# Altium schematic symbol library 无刷驱动-STC-无感-Lite3S.SchLib: 23 symbols
Pins are listed as number, name and electrical type; pins without a type are passive.

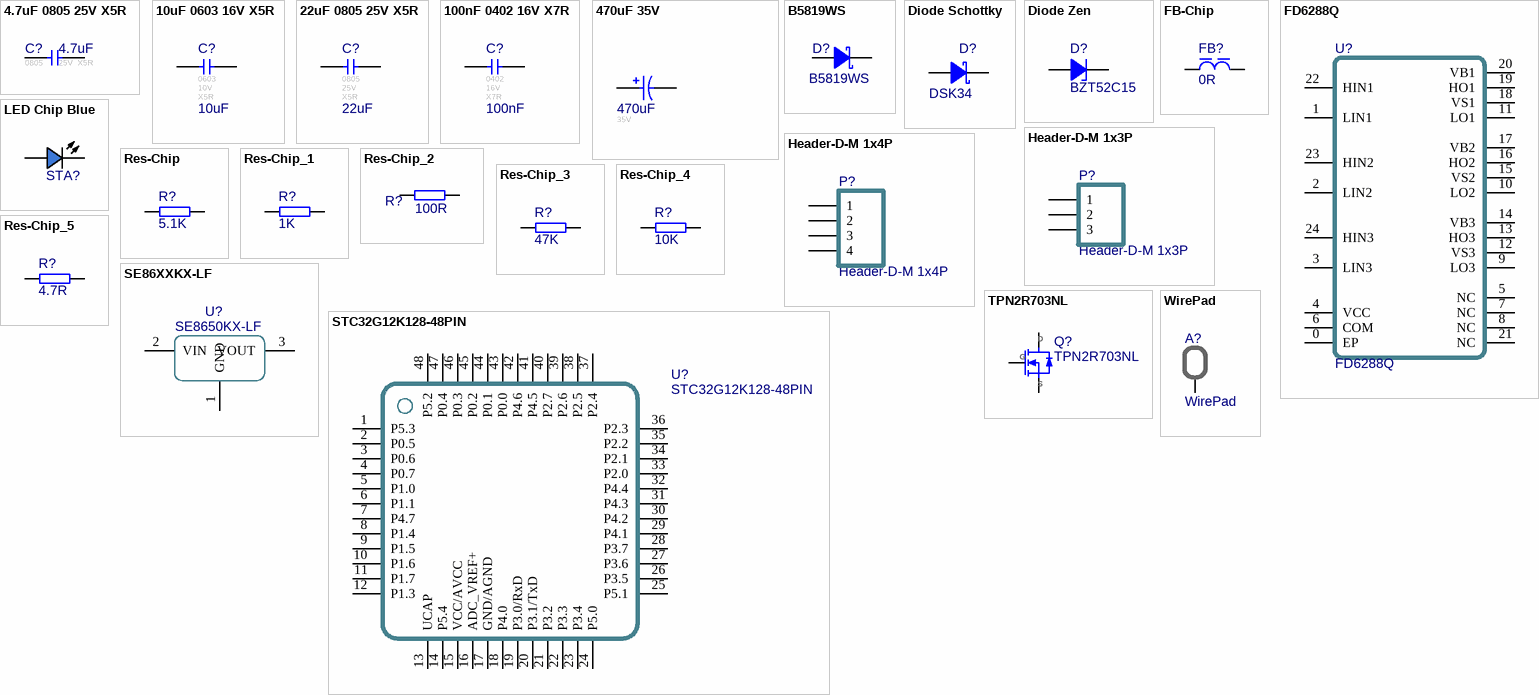
[diagram p0: symbols 4.7uF 0805 25V X5R to WirePad]

## 4.7uF 0805 25V X5R
designator C?, comment value 4.7uF  FootPrint: 0805  Voltage: 25V  Type: X5R  (hidden comment: 4.7uF 25V X5R)
贴片瓷片电容; MLCC; 0805(2012);; Revision: V1.0
footprint CAPC2012[0805] (0805贴片电容 无丝印 2脚 2.00x1.20mm IPC中密度)
footprint CAPC2012[0805]S-L (0805贴片电容 有丝印 2脚 2.00x1.20mm IPC高密度)
footprint CAPC2012[0805]S-M (0805贴片电容 有丝印 2脚 2.00x1.20mm IPC低密度)
footprint CAPC2012[0805]S-N (0805贴片电容 有丝印 2脚 2.00x1.20mm IPC中密度)
pins: 1, 2

## 10uF 0603 16V X5R
designator C?, comment value 10uF  FootPrint: 0603  Voltage: 10V  Type: X5R  (hidden comment: 10uF 10V X5R)
贴片瓷片电容; MLCC; 0603(1608);; Revision: V1.0
footprint CAPC1608[0603]-L (0603贴片电容 无丝印 2脚 1.60x0.80mm IPC高密度)
footprint CAPC1608[0603]-M (0603贴片电容 无丝印 2脚 1.60x0.80mm IPC低密度)
footprint CAPC1608[0603]-N (0603贴片电容 无丝印 2脚 1.60x0.80mm IPC中密度)
footprint CAPC1608[0603]S-L (0603贴片电容 有丝印 2脚 1.60x0.80mm IPC高密度)
footprint CAPC1608[0603]S-M (0603贴片电容 有丝印 2脚 1.60x0.80mm IPC低密度)
footprint CAPC1608[0603]S-N (0603贴片电容 有丝印 2脚 1.60x0.80mm IPC中密度)
pins: 1, 2

## 22uF 0805 25V X5R
designator C?, comment value 22uF  FootPrint: 0805  Voltage: 25V  Type: X5R  (hidden comment: 22uF 25V X5R)
贴片瓷片电容; MLCC; 0805(2012);; Revision: V1.0
footprint CAPC2012[0805] (0805贴片电容 无丝印 2脚 2.00x1.20mm IPC中密度)
footprint CAPC2012[0805]S-L (0805贴片电容 有丝印 2脚 2.00x1.20mm IPC高密度)
footprint CAPC2012[0805]S-M (0805贴片电容 有丝印 2脚 2.00x1.20mm IPC低密度)
footprint CAPC2012[0805]S-N (0805贴片电容 有丝印 2脚 2.00x1.20mm IPC中密度)
pins: 1, 2

## 100nF 0402 16V X7R
designator C?, comment value 100nF  FootPrint: 0402  Voltage: 16V  Type: X7R  (hidden comment: 100nF 16V X7R)
贴片瓷片电容; MLCC; 0402(1005);; Revision: V1.0
footprint CAPC1005[0402]-L (0402贴片电容 无丝印 2脚 1.00x0.50mm IPC高密度)
footprint CAPC1005[0402]-M (0402贴片电容 无丝印 2脚 1.00x0.50mm IPC低密度)
footprint CAPC1005[0402]-N (0402贴片电容 无丝印 2脚 1.00x0.50mm IPC中密度)
footprint CAPC1005[0402]S-L (0402贴片电容 有丝印 2脚 1.00x0.50mm IPC高密度)
footprint CAPC1005[0402]S-M (0402贴片电容 有丝印 2脚 1.00x0.50mm IPC低密度)
footprint CAPC1005[0402]S-N (0402贴片电容 有丝印 2脚 1.00x0.50mm IPC中密度)
pins: 1, 2

## 470uF 35V
designator C?, comment value 470uF  Voltage: 35V  (hidden comment: 470uF 35V 铝电解)
直插固态电容; Revision: V1.0; Type: 铝电解
footprint CAPPR5-8X12
footprint Cap-S-D 3.5-8x14-S (固态直插 3.5mm间距 8x14mm 侧着焊在板边)
pins: 1, 2

## B5819WS
designator D?
B5819WS 肖特基二极管; Revision: V1.0; Value: B5819WS
footprint SOD-323 (SOD Diode;1.65mm W X 1.24mm L X 1.16mm H body)
pins: A, K

## Diode Schottky
designator D?, comment DSK34
肖特基二极管 Diode; Imax: 500mA; Published: 8-Jun-2000; Revision: July-2002: Re-released for DXP Platform.; Publisher: Altium Limited; Price(RMB): 0.000
footprint SMB[DO-214AA] (Molded Diode, 2-Leads, Body 5.30x3.55mm, IPC Medium Density)
footprint SMC[DO-214AB] (Molded Diode, 2-Leads, Body 7.94x5.90mm, IPC Medium Density)
footprint SOD-123-FL (SOD Diode;2.70mm W X 1.60mm L X 1.35mm H body)
footprint SOD-323 (SOD Diode;1.65mm W X 1.24mm L X 1.16mm H body)
footprint SOD-523-M (SODFL Diode;1.20mm W X 0.80mm L X 0.70mm H body)
footprint SMA[DO-214AC] (Molded Diode, 2-Leads, Body 5.00x2.49mm, IPC Medium Density)
footprint SOD-123-L (SOD Diode;2.70mm W X 1.60mm L X 1.35mm H body)
footprint SOD-523-L (SODFL Diode;1.20mm W X 0.80mm L X 0.70mm H body)
footprint SOD-123-M (SOD Diode;2.70mm W X 1.60mm L X 1.35mm H body)
pins: A, K

## Diode Zen
designator D?, comment BZT52C15
稳压二极管 齐纳二极管  Zener Diode; Published: 8-Jun-2000; Revision: July-2002: Re-released for DXP Platform.; Publisher: Altium Limited; Price(RMB): 0.000
footprint DIODE-0.7 (Zener Diode; 2 Leads)
footprint DIODE-0.4
footprint SOD-87[LL-41] (MELF Diode, 2-Leads, Body 5.00x2.49mm, IPC Medium Density)
footprint CD4521-1808
footprint SOD-80[LL-34] (MELF Diode, 2-Leads, Body 3.55x1.65mm, IPC Medium Density)
footprint SOD-123-FL (SOD Diode;2.70mm W X 1.60mm L X 1.35mm H body)
footprint SOD-123-L (SOD Diode;2.70mm W X 1.60mm L X 1.35mm H body)
footprint SOD-123-M (SOD Diode;2.70mm W X 1.60mm L X 1.35mm H body)
footprint SOD-323 (SOD Diode;1.65mm W X 1.24mm L X 1.16mm H body)
footprint SOD-523-L (SODFL Diode;1.20mm W X 0.80mm L X 0.70mm H body)
footprint SOD-523-M (SODFL Diode;1.20mm W X 0.80mm L X 0.70mm H body)
pins: A, K

## FB-Chip
designator FB?, comment value 0R  (hidden comment: 0R @100MHz 500mA)
贴片磁珠; DCR: .1m; Published: 2020-12-18; Revision: V1.0; Frequency: @100MHz; Imax: 500mA
footprint INDC1608[0603]S (Not in IPC, Chip Inductor,Silkscreen Border, 2-Leads, Body 1.60x0.80mm, IPC Medium Density)
footprint INDC2012[0805]S (Chip Inductor,Silkscreen Border, 2-Leads, Body 2.00x0.90mm, IPC Medium Density)
footprint INDC3216[1206]S (Chip Inductor,Silkscreen Border, 2-Leads, Body 3.20x1.60mm, IPC Medium Density)
footprint INDC4509[1806]S (Chip Inductor,Silkscreen Border, 2-Leads, Body 4.50x0.90mm, IPC Medium Density)
footprint INDC1005[0402] (Chip Inductor, 2-Leads, Body 1.00x0.50mm, IPC Medium Density)
footprint INDC1608[0603] (Chip Inductor, 2-Leads, Body 1.60x0.80mm, IPC Medium Density)
footprint INDC2012[0805] (Chip Inductor, 2-Leads, Body 2.00x0.90mm, IPC Medium Density)
footprint INDC3216[1206] (Chip Inductor, 2-Leads, Body 3.20x1.60mm, IPC Medium Density)
footprint INDC3225[1210] (Capacitor,non-polarized,Chip;3.20mm L X 2.50mm W X 1.35mm H)
footprint INDC3216[1206] (Chip Inductor, 2-Leads, Body 3.20x1.60mm, IPC Medium Density)
footprint INDC1005[0402]S (Chip Inductor, 2-Leads, Body 1.00x0.50mm, IPC Medium Density)
pins: 1, 2

## FD6288Q
designator U?
FD6288Q 三相栅极驱动器
footprint QFN24-4x4
pins: 0 EP, 1 LIN1, 2 LIN2, 3 LIN3, 4 VCC, 5 NC, 6 COM, 7 NC, 8 NC, 9 LO3, 10 LO2, 11 LO1, 12 VS3, 13 HO3, 14 VB3, 15 VS2, 16 HO2, 17 VB2, 18 VS1, 19 HO1, 20 VB1, 21 NC, 22 HIN1, 23 HIN2, 24 HIN3

## Header-D-M 1x3P
designator P?
1x3pin; Revision: V1.0; Value: Header-D-M 1x3P
footprint HDR1X3-TP (Footprint not found)
pins: 1, 2, 3

## Header-D-M 1x4P
designator P?  (no BOM)
1x4pin; Revision: V1.0; Value: Header-D-M 1x4P
footprint HDR1X4-TP (2.54mm间距,表面焊盘)
pins: 1, 2, 3, 4

## LED Chip Blue
designator STA?, comment 蓝色贴片LED  (value not drawn)
Published: 8-Jun-2000; Revision: July-2002: Re-released for DXP Platform.; Publisher: Altium Limited; Price(RMB): 0.00; Color: Blue
footprint LEDC1608(0603) (LED,Chip;1.60mm L X 0.80mm W X 0.80mm H)
footprint LEDC2012(0805) (LED,Chip;2.00mm L X 1.25mm W X 1.20mm H)
footprint LEDC3216(1206) (LED,Chip;3.20mm L X 1.60mm W X 1.30mm H)
footprint LEDC1608(0603)-L (LED,Chip;1.60mm L X 0.80mm W X 0.80mm H)
footprint LEDC2012(0805)-L (LED,Chip;2.00mm L X 1.25mm W X 1.20mm H)
footprint LEDC3216(1204) (LED,Chip;3.20mm L X 1.60mm W X 1.30mm H)
footprint LEDC3528-2 (3528 2脚 贴片LED)
pins: A, C

## Res-Chip
designator R?, comment value 5.1K  (hidden comment: 5.1K ±1%)
贴片电阻; Power: 1/8W; Revision: V1.0; Tolerance: ±1%
footprint RESC0603[0201]-L (0201贴片电阻 无丝印 2脚 0.60x0.30mm IPC高密度)
footprint RESC0603[0201]-M (0201贴片电阻 无丝印 2脚 0.60x0.30mm IPC低密度)
footprint RESC0603[0201]-N (0201贴片电阻 无丝印 2脚 0.60x0.30mm IPC中密度)
footprint RESC0603[0201]S-L (0201贴片电阻 有丝印 2脚 0.60x0.30mm IPC高密度)
footprint RESC0603[0201]S-M (0201贴片电阻 有丝印 2脚 0.60x0.30mm IPC低密度)
footprint RESC0603[0201]S-N (0201贴片电阻 有丝印 2脚 0.60x0.30mm IPC中密度)
footprint RESC1005[0402]-L (0402贴片电阻 无丝印 2脚 1.00x0.50mm IPC高密度)
footprint RESC1005[0402]S-M (0402贴片电阻 有丝印 2脚 1.00x0.50mm IPC低密度)
footprint RESC1005[0402]-M (0402贴片电阻 无丝印 2脚 1.00x0.50mm IPC低密度)
footprint RESC1005[0402]-N (0402贴片电阻 无丝印 2脚 1.00x0.50mm IPC中密度)
footprint RESC1005[0402]S-L (0402贴片电阻 有丝印 2脚 1.00x0.50mm IPC高密度)
footprint RESC1005[0402]S-N (0402贴片电阻 有丝印 2脚 1.00x0.50mm IPC中密度)
footprint RESC1608[0603]-L (0603贴片电阻 无丝印 2脚 1.60x0.80mm IPC高密度)
footprint RESC1608[0603]-M (0603贴片电阻 无丝印 2脚 1.60x0.80mm IPC低密度)
footprint RESC1608[0603]-N (0603贴片电阻 无丝印 2脚 1.60x0.80mm IPC中密度)
footprint RESC1608[0603]S-L (0603贴片电阻 有丝印 2脚 1.60x0.80mm IPC高密度)
footprint RESC1608[0603]S-M (0603贴片电阻 有丝印 2脚 1.60x0.80mm IPC低密度)
footprint RESC1608[0603]S-N (0603贴片电阻 有丝印 2脚 1.60x0.80mm IPC中密度)
footprint RESC2012[0805] (0805贴片电阻 无丝印 2脚 2.00x1.20mm IPC高密度)
footprint RESC2012[0805]S-L (0805贴片电阻 有丝印 2脚 2.00x1.20mm IPC高密度)
footprint RESC2012[0805]S-M (0805贴片电阻 有丝印 2脚 2.00x1.20mm IPC低密度)
footprint RESC2012[0805]S-N (0805贴片电阻 有丝印 2脚 2.00x1.20mm IPC中密度)
footprint RESC3216[1206] (1206贴片电阻 无丝印 2脚 3.20x1.60mm IPC高密度)
footprint RESC3216[1206]S-L (1206贴片电阻 有丝印 2脚 3.20x1.60mm IPC高密度)
footprint RESC3216[1206]S-M (1206贴片电阻 有丝印 2脚 3.20x1.60mm IPC低密度)
footprint RESC3216[1206]S-N (1206贴片电阻 有丝印 2脚 3.20x1.60mm IPC中密度)
footprint RESC3225[1210] (Chip Resistor, 2-Leads, Body 3.20x2.49mm, IPC Medium Density)
footprint RESC3225[1210]S (Silkscreen Outside, Chip Resistor, 2-Leads, Body 3.20x2.49mm, IPC Medium Density)
footprint RESC5025[2010] (Chip Resistor, 2-Leads, Body 5.00x2.50mm, IPC Medium Density)
footprint RESC5025[2010]S (Silkscreen Outside, Chip Resistor, 2-Leads, Body 5.00x2.50mm, IPC Medium Density)
footprint RESC6332[2512] (2512贴片电阻 无丝印 2脚 6.30x3.20mm IPC中密度)
footprint RESC6332[2512]S (2512贴片电阻 有丝印 2脚 6.30x3.20mm IPC中密度)
pins: 1, 2

## Res-Chip_1
designator R?, comment value 1K  (hidden comment: 1K ±1%)
贴片电阻; Power: 1/8W; Revision: V1.0; Tolerance: ±1%
footprint RESC0603[0201]-L (0201贴片电阻 无丝印 2脚 0.60x0.30mm IPC高密度)
footprint RESC0603[0201]-M (0201贴片电阻 无丝印 2脚 0.60x0.30mm IPC低密度)
footprint RESC0603[0201]-N (0201贴片电阻 无丝印 2脚 0.60x0.30mm IPC中密度)
footprint RESC0603[0201]S-L (0201贴片电阻 有丝印 2脚 0.60x0.30mm IPC高密度)
footprint RESC0603[0201]S-M (0201贴片电阻 有丝印 2脚 0.60x0.30mm IPC低密度)
footprint RESC0603[0201]S-N (0201贴片电阻 有丝印 2脚 0.60x0.30mm IPC中密度)
footprint RESC1005[0402]-L (0402贴片电阻 无丝印 2脚 1.00x0.50mm IPC高密度)
footprint RESC1005[0402]S-M (0402贴片电阻 有丝印 2脚 1.00x0.50mm IPC低密度)
footprint RESC1005[0402]-M (0402贴片电阻 无丝印 2脚 1.00x0.50mm IPC低密度)
footprint RESC1005[0402]-N (0402贴片电阻 无丝印 2脚 1.00x0.50mm IPC中密度)
footprint RESC1005[0402]S-L (0402贴片电阻 有丝印 2脚 1.00x0.50mm IPC高密度)
footprint RESC1005[0402]S-N (0402贴片电阻 有丝印 2脚 1.00x0.50mm IPC中密度)
footprint RESC1608[0603]-L (0603贴片电阻 无丝印 2脚 1.60x0.80mm IPC高密度)
footprint RESC1608[0603]-M (0603贴片电阻 无丝印 2脚 1.60x0.80mm IPC低密度)
footprint RESC1608[0603]-N (0603贴片电阻 无丝印 2脚 1.60x0.80mm IPC中密度)
footprint RESC1608[0603]S-L (0603贴片电阻 有丝印 2脚 1.60x0.80mm IPC高密度)
footprint RESC1608[0603]S-M (0603贴片电阻 有丝印 2脚 1.60x0.80mm IPC低密度)
footprint RESC1608[0603]S-N (0603贴片电阻 有丝印 2脚 1.60x0.80mm IPC中密度)
footprint RESC2012[0805] (0805贴片电阻 无丝印 2脚 2.00x1.20mm IPC高密度)
footprint RESC2012[0805]S-L (0805贴片电阻 有丝印 2脚 2.00x1.20mm IPC高密度)
footprint RESC2012[0805]S-M (0805贴片电阻 有丝印 2脚 2.00x1.20mm IPC低密度)
footprint RESC2012[0805]S-N (0805贴片电阻 有丝印 2脚 2.00x1.20mm IPC中密度)
footprint RESC3216[1206] (1206贴片电阻 无丝印 2脚 3.20x1.60mm IPC高密度)
footprint RESC3216[1206]S-L (1206贴片电阻 有丝印 2脚 3.20x1.60mm IPC高密度)
footprint RESC3216[1206]S-M (1206贴片电阻 有丝印 2脚 3.20x1.60mm IPC低密度)
footprint RESC3216[1206]S-N (1206贴片电阻 有丝印 2脚 3.20x1.60mm IPC中密度)
footprint RESC3225[1210] (Chip Resistor, 2-Leads, Body 3.20x2.49mm, IPC Medium Density)
footprint RESC3225[1210]S (Silkscreen Outside, Chip Resistor, 2-Leads, Body 3.20x2.49mm, IPC Medium Density)
footprint RESC5025[2010] (Chip Resistor, 2-Leads, Body 5.00x2.50mm, IPC Medium Density)
footprint RESC5025[2010]S (Silkscreen Outside, Chip Resistor, 2-Leads, Body 5.00x2.50mm, IPC Medium Density)
footprint RESC6332[2512] (2512贴片电阻 无丝印 2脚 6.30x3.20mm IPC中密度)
footprint RESC6332[2512]S (2512贴片电阻 有丝印 2脚 6.30x3.20mm IPC中密度)
pins: 1, 2

## Res-Chip_2
designator R?, comment value 100R  (hidden comment: 100R ±1%)
贴片电阻; Power: 1/8W; Revision: V1.0; Tolerance: ±1%
footprint RESC0603[0201]-L (0201贴片电阻 无丝印 2脚 0.60x0.30mm IPC高密度)
footprint RESC0603[0201]-M (0201贴片电阻 无丝印 2脚 0.60x0.30mm IPC低密度)
footprint RESC0603[0201]-N (0201贴片电阻 无丝印 2脚 0.60x0.30mm IPC中密度)
footprint RESC0603[0201]S-L (0201贴片电阻 有丝印 2脚 0.60x0.30mm IPC高密度)
footprint RESC0603[0201]S-M (0201贴片电阻 有丝印 2脚 0.60x0.30mm IPC低密度)
footprint RESC0603[0201]S-N (0201贴片电阻 有丝印 2脚 0.60x0.30mm IPC中密度)
footprint RESC1005[0402]-L (0402贴片电阻 无丝印 2脚 1.00x0.50mm IPC高密度)
footprint RESC1005[0402]S-M (0402贴片电阻 有丝印 2脚 1.00x0.50mm IPC低密度)
footprint RESC1005[0402]-M (0402贴片电阻 无丝印 2脚 1.00x0.50mm IPC低密度)
footprint RESC1005[0402]-N (0402贴片电阻 无丝印 2脚 1.00x0.50mm IPC中密度)
footprint RESC1005[0402]S-L (0402贴片电阻 有丝印 2脚 1.00x0.50mm IPC高密度)
footprint RESC1005[0402]S-N (0402贴片电阻 有丝印 2脚 1.00x0.50mm IPC中密度)
footprint RESC1608[0603]-L (0603贴片电阻 无丝印 2脚 1.60x0.80mm IPC高密度)
footprint RESC1608[0603]-M (0603贴片电阻 无丝印 2脚 1.60x0.80mm IPC低密度)
footprint RESC1608[0603]-N (0603贴片电阻 无丝印 2脚 1.60x0.80mm IPC中密度)
footprint RESC1608[0603]S-L (0603贴片电阻 有丝印 2脚 1.60x0.80mm IPC高密度)
footprint RESC1608[0603]S-M (0603贴片电阻 有丝印 2脚 1.60x0.80mm IPC低密度)
footprint RESC1608[0603]S-N (0603贴片电阻 有丝印 2脚 1.60x0.80mm IPC中密度)
footprint RESC2012[0805] (0805贴片电阻 无丝印 2脚 2.00x1.20mm IPC高密度)
footprint RESC2012[0805]S-L (0805贴片电阻 有丝印 2脚 2.00x1.20mm IPC高密度)
footprint RESC2012[0805]S-M (0805贴片电阻 有丝印 2脚 2.00x1.20mm IPC低密度)
footprint RESC2012[0805]S-N (0805贴片电阻 有丝印 2脚 2.00x1.20mm IPC中密度)
footprint RESC3216[1206] (1206贴片电阻 无丝印 2脚 3.20x1.60mm IPC高密度)
footprint RESC3216[1206]S-L (1206贴片电阻 有丝印 2脚 3.20x1.60mm IPC高密度)
footprint RESC3216[1206]S-M (1206贴片电阻 有丝印 2脚 3.20x1.60mm IPC低密度)
footprint RESC3216[1206]S-N (1206贴片电阻 有丝印 2脚 3.20x1.60mm IPC中密度)
footprint RESC3225[1210] (Chip Resistor, 2-Leads, Body 3.20x2.49mm, IPC Medium Density)
footprint RESC3225[1210]S (Silkscreen Outside, Chip Resistor, 2-Leads, Body 3.20x2.49mm, IPC Medium Density)
footprint RESC5025[2010] (Chip Resistor, 2-Leads, Body 5.00x2.50mm, IPC Medium Density)
footprint RESC5025[2010]S (Silkscreen Outside, Chip Resistor, 2-Leads, Body 5.00x2.50mm, IPC Medium Density)
footprint RESC6332[2512] (2512贴片电阻 无丝印 2脚 6.30x3.20mm IPC中密度)
footprint RESC6332[2512]S (2512贴片电阻 有丝印 2脚 6.30x3.20mm IPC中密度)
pins: 1, 2

## Res-Chip_3
designator R?, comment value 47K  (hidden comment: 47K ±1%)
贴片电阻; Power: 1/8W; Revision: V1.0; Tolerance: ±1%
footprint RESC0603[0201]-L (0201贴片电阻 无丝印 2脚 0.60x0.30mm IPC高密度)
footprint RESC0603[0201]-M (0201贴片电阻 无丝印 2脚 0.60x0.30mm IPC低密度)
footprint RESC0603[0201]-N (0201贴片电阻 无丝印 2脚 0.60x0.30mm IPC中密度)
footprint RESC0603[0201]S-L (0201贴片电阻 有丝印 2脚 0.60x0.30mm IPC高密度)
footprint RESC0603[0201]S-M (0201贴片电阻 有丝印 2脚 0.60x0.30mm IPC低密度)
footprint RESC0603[0201]S-N (0201贴片电阻 有丝印 2脚 0.60x0.30mm IPC中密度)
footprint RESC1005[0402]-L (0402贴片电阻 无丝印 2脚 1.00x0.50mm IPC高密度)
footprint RESC1005[0402]S-M (0402贴片电阻 有丝印 2脚 1.00x0.50mm IPC低密度)
footprint RESC1005[0402]-M (0402贴片电阻 无丝印 2脚 1.00x0.50mm IPC低密度)
footprint RESC1005[0402]-N (0402贴片电阻 无丝印 2脚 1.00x0.50mm IPC中密度)
footprint RESC1005[0402]S-L (0402贴片电阻 有丝印 2脚 1.00x0.50mm IPC高密度)
footprint RESC1005[0402]S-N (0402贴片电阻 有丝印 2脚 1.00x0.50mm IPC中密度)
footprint RESC1608[0603]-L (0603贴片电阻 无丝印 2脚 1.60x0.80mm IPC高密度)
footprint RESC1608[0603]-M (0603贴片电阻 无丝印 2脚 1.60x0.80mm IPC低密度)
footprint RESC1608[0603]-N (0603贴片电阻 无丝印 2脚 1.60x0.80mm IPC中密度)
footprint RESC1608[0603]S-L (0603贴片电阻 有丝印 2脚 1.60x0.80mm IPC高密度)
footprint RESC1608[0603]S-M (0603贴片电阻 有丝印 2脚 1.60x0.80mm IPC低密度)
footprint RESC1608[0603]S-N (0603贴片电阻 有丝印 2脚 1.60x0.80mm IPC中密度)
footprint RESC2012[0805] (0805贴片电阻 无丝印 2脚 2.00x1.20mm IPC高密度)
footprint RESC2012[0805]S-L (0805贴片电阻 有丝印 2脚 2.00x1.20mm IPC高密度)
footprint RESC2012[0805]S-M (0805贴片电阻 有丝印 2脚 2.00x1.20mm IPC低密度)
footprint RESC2012[0805]S-N (0805贴片电阻 有丝印 2脚 2.00x1.20mm IPC中密度)
footprint RESC3216[1206] (1206贴片电阻 无丝印 2脚 3.20x1.60mm IPC高密度)
footprint RESC3216[1206]S-L (1206贴片电阻 有丝印 2脚 3.20x1.60mm IPC高密度)
footprint RESC3216[1206]S-M (1206贴片电阻 有丝印 2脚 3.20x1.60mm IPC低密度)
footprint RESC3216[1206]S-N (1206贴片电阻 有丝印 2脚 3.20x1.60mm IPC中密度)
footprint RESC3225[1210] (Chip Resistor, 2-Leads, Body 3.20x2.49mm, IPC Medium Density)
footprint RESC3225[1210]S (Silkscreen Outside, Chip Resistor, 2-Leads, Body 3.20x2.49mm, IPC Medium Density)
footprint RESC5025[2010] (Chip Resistor, 2-Leads, Body 5.00x2.50mm, IPC Medium Density)
footprint RESC5025[2010]S (Silkscreen Outside, Chip Resistor, 2-Leads, Body 5.00x2.50mm, IPC Medium Density)
footprint RESC6332[2512] (2512贴片电阻 无丝印 2脚 6.30x3.20mm IPC中密度)
footprint RESC6332[2512]S (2512贴片电阻 有丝印 2脚 6.30x3.20mm IPC中密度)
pins: 1, 2

## Res-Chip_4
designator R?, comment value 10K  (hidden comment: 10K ±1%)
贴片电阻; Power: 1/8W; Revision: V1.0; Tolerance: ±1%
footprint RESC0603[0201]-L (0201贴片电阻 无丝印 2脚 0.60x0.30mm IPC高密度)
footprint RESC0603[0201]-M (0201贴片电阻 无丝印 2脚 0.60x0.30mm IPC低密度)
footprint RESC0603[0201]-N (0201贴片电阻 无丝印 2脚 0.60x0.30mm IPC中密度)
footprint RESC0603[0201]S-L (0201贴片电阻 有丝印 2脚 0.60x0.30mm IPC高密度)
footprint RESC0603[0201]S-M (0201贴片电阻 有丝印 2脚 0.60x0.30mm IPC低密度)
footprint RESC0603[0201]S-N (0201贴片电阻 有丝印 2脚 0.60x0.30mm IPC中密度)
footprint RESC1005[0402]-L (0402贴片电阻 无丝印 2脚 1.00x0.50mm IPC高密度)
footprint RESC1005[0402]S-M (0402贴片电阻 有丝印 2脚 1.00x0.50mm IPC低密度)
footprint RESC1005[0402]-M (0402贴片电阻 无丝印 2脚 1.00x0.50mm IPC低密度)
footprint RESC1005[0402]-N (0402贴片电阻 无丝印 2脚 1.00x0.50mm IPC中密度)
footprint RESC1005[0402]S-L (0402贴片电阻 有丝印 2脚 1.00x0.50mm IPC高密度)
footprint RESC1005[0402]S-N (0402贴片电阻 有丝印 2脚 1.00x0.50mm IPC中密度)
footprint RESC1608[0603]-L (0603贴片电阻 无丝印 2脚 1.60x0.80mm IPC高密度)
footprint RESC1608[0603]-M (0603贴片电阻 无丝印 2脚 1.60x0.80mm IPC低密度)
footprint RESC1608[0603]-N (0603贴片电阻 无丝印 2脚 1.60x0.80mm IPC中密度)
footprint RESC1608[0603]S-L (0603贴片电阻 有丝印 2脚 1.60x0.80mm IPC高密度)
footprint RESC1608[0603]S-M (0603贴片电阻 有丝印 2脚 1.60x0.80mm IPC低密度)
footprint RESC1608[0603]S-N (0603贴片电阻 有丝印 2脚 1.60x0.80mm IPC中密度)
footprint RESC2012[0805] (0805贴片电阻 无丝印 2脚 2.00x1.20mm IPC高密度)
footprint RESC2012[0805]S-L (0805贴片电阻 有丝印 2脚 2.00x1.20mm IPC高密度)
footprint RESC2012[0805]S-M (0805贴片电阻 有丝印 2脚 2.00x1.20mm IPC低密度)
footprint RESC2012[0805]S-N (0805贴片电阻 有丝印 2脚 2.00x1.20mm IPC中密度)
footprint RESC3216[1206] (1206贴片电阻 无丝印 2脚 3.20x1.60mm IPC高密度)
footprint RESC3216[1206]S-L (1206贴片电阻 有丝印 2脚 3.20x1.60mm IPC高密度)
footprint RESC3216[1206]S-M (1206贴片电阻 有丝印 2脚 3.20x1.60mm IPC低密度)
footprint RESC3216[1206]S-N (1206贴片电阻 有丝印 2脚 3.20x1.60mm IPC中密度)
footprint RESC3225[1210] (Chip Resistor, 2-Leads, Body 3.20x2.49mm, IPC Medium Density)
footprint RESC3225[1210]S (Silkscreen Outside, Chip Resistor, 2-Leads, Body 3.20x2.49mm, IPC Medium Density)
footprint RESC5025[2010] (Chip Resistor, 2-Leads, Body 5.00x2.50mm, IPC Medium Density)
footprint RESC5025[2010]S (Silkscreen Outside, Chip Resistor, 2-Leads, Body 5.00x2.50mm, IPC Medium Density)
footprint RESC6332[2512] (2512贴片电阻 无丝印 2脚 6.30x3.20mm IPC中密度)
footprint RESC6332[2512]S (2512贴片电阻 有丝印 2脚 6.30x3.20mm IPC中密度)
pins: 1, 2

## Res-Chip_5
designator R?, comment value 4.7R  (hidden comment: 4.7R ±1%)
贴片电阻; Power: 1/8W; Revision: V1.0; Tolerance: ±1%
footprint RESC0603[0201]-L (0201贴片电阻 无丝印 2脚 0.60x0.30mm IPC高密度)
footprint RESC0603[0201]-M (0201贴片电阻 无丝印 2脚 0.60x0.30mm IPC低密度)
footprint RESC0603[0201]-N (0201贴片电阻 无丝印 2脚 0.60x0.30mm IPC中密度)
footprint RESC0603[0201]S-L (0201贴片电阻 有丝印 2脚 0.60x0.30mm IPC高密度)
footprint RESC0603[0201]S-M (0201贴片电阻 有丝印 2脚 0.60x0.30mm IPC低密度)
footprint RESC0603[0201]S-N (0201贴片电阻 有丝印 2脚 0.60x0.30mm IPC中密度)
footprint RESC1005[0402]-L (0402贴片电阻 无丝印 2脚 1.00x0.50mm IPC高密度)
footprint RESC1005[0402]S-M (0402贴片电阻 有丝印 2脚 1.00x0.50mm IPC低密度)
footprint RESC1005[0402]-M (0402贴片电阻 无丝印 2脚 1.00x0.50mm IPC低密度)
footprint RESC1005[0402]-N (0402贴片电阻 无丝印 2脚 1.00x0.50mm IPC中密度)
footprint RESC1005[0402]S-L (0402贴片电阻 有丝印 2脚 1.00x0.50mm IPC高密度)
footprint RESC1005[0402]S-N (0402贴片电阻 有丝印 2脚 1.00x0.50mm IPC中密度)
footprint RESC1608[0603]-L (0603贴片电阻 无丝印 2脚 1.60x0.80mm IPC高密度)
footprint RESC1608[0603]-M (0603贴片电阻 无丝印 2脚 1.60x0.80mm IPC低密度)
footprint RESC1608[0603]-N (0603贴片电阻 无丝印 2脚 1.60x0.80mm IPC中密度)
footprint RESC1608[0603]S-L (0603贴片电阻 有丝印 2脚 1.60x0.80mm IPC高密度)
footprint RESC1608[0603]S-M (0603贴片电阻 有丝印 2脚 1.60x0.80mm IPC低密度)
footprint RESC1608[0603]S-N (0603贴片电阻 有丝印 2脚 1.60x0.80mm IPC中密度)
footprint RESC2012[0805] (0805贴片电阻 无丝印 2脚 2.00x1.20mm IPC高密度)
footprint RESC2012[0805]S-L (0805贴片电阻 有丝印 2脚 2.00x1.20mm IPC高密度)
footprint RESC2012[0805]S-M (0805贴片电阻 有丝印 2脚 2.00x1.20mm IPC低密度)
footprint RESC2012[0805]S-N (0805贴片电阻 有丝印 2脚 2.00x1.20mm IPC中密度)
footprint RESC3216[1206] (1206贴片电阻 无丝印 2脚 3.20x1.60mm IPC高密度)
footprint RESC3216[1206]S-L (1206贴片电阻 有丝印 2脚 3.20x1.60mm IPC高密度)
footprint RESC3216[1206]S-M (1206贴片电阻 有丝印 2脚 3.20x1.60mm IPC低密度)
footprint RESC3216[1206]S-N (1206贴片电阻 有丝印 2脚 3.20x1.60mm IPC中密度)
footprint RESC3225[1210] (Chip Resistor, 2-Leads, Body 3.20x2.49mm, IPC Medium Density)
footprint RESC3225[1210]S (Silkscreen Outside, Chip Resistor, 2-Leads, Body 3.20x2.49mm, IPC Medium Density)
footprint RESC5025[2010] (Chip Resistor, 2-Leads, Body 5.00x2.50mm, IPC Medium Density)
footprint RESC5025[2010]S (Silkscreen Outside, Chip Resistor, 2-Leads, Body 5.00x2.50mm, IPC Medium Density)
footprint RESC6332[2512] (2512贴片电阻 无丝印 2脚 6.30x3.20mm IPC中密度)
footprint RESC6332[2512]S (2512贴片电阻 有丝印 2脚 6.30x3.20mm IPC中密度)
pins: 1, 2

## SE86XXKX-LF
designator U?, comment SE8650KX-LF
SE86XX 线性稳压器
footprint SOT-89[T0243AA][SC62]-L (SOT89, T0243AA,SC62,3-Leads, Body 4.5x2.4 mm, Pitch 1.5mm, Lead Span 4.1mm, IPC Low Density)
pins: 1 GND, 2 VIN, 3 VOUT

## STC32G12K128-48PIN
designator U?
STC32G12K128 LQFP48
footprint LQFP48_L (Thin QFP, 48-Leads, Body 7x7mm, Pitch 0.5mm, IPC High Density)
footprint LQFP48_M (Thin QFP, 48-Leads, Body 7x7mm, Pitch 0.5mm, IPC Low Density)
footprint LQFP48_N (Thin QFP, 48-Leads, Body 7x7mm, Pitch 0.5mm, IPC Medium Density)
pins: 1 P5.3, 2 P0.5, 3 P0.6, 4 P0.7, 5 P1.0, 6 P1.1, 7 P4.7, 8 P1.4, 9 P1.5, 10 P1.6, 11 P1.7, 12 P1.3, 13 UCAP, 14 P5.4, 15 VCC/AVCC, 16 ADC_VREF+, 17 GND/AGND, 18 P4.0, 19 P3.0/RxD, 20 P3.1/TxD, 21 P3.2, 22 P3.3, 23 P3.4, 24 P5.0, 25 P5.1, 26 P3.5, 27 P3.6, 28 P3.7, 29 P4.1, 30 P4.2, 31 P4.3, 32 P4.4, 33 P2.0, 34 P2.1, 35 P2.2, 36 P2.3, 37 P2.4, 38 P2.5, 39 P2.6, 40 P2.7, 41 P4.5, 42 P4.6, 43 P0.0, 44 P0.1, 45 P0.2, 46 P0.3, 47 P0.4, 48 P5.2

## TPN2R703NL
designator Q?
东芝 N沟 MOS
footprint TSON3x3
pins: 1 D, 2 G, 3 S

## WirePad
designator A?  (no BOM)
线缆焊盘
footprint WirePad-4x6 (焊线盘 表贴 4mm x 6mm)
footprint WirePad-4.5x7 (焊线盘 表贴 4.5mm x 7mm)
pins: 1